# EAGLE library part IC_74141 (library untitled)
BCD to decimal decoder
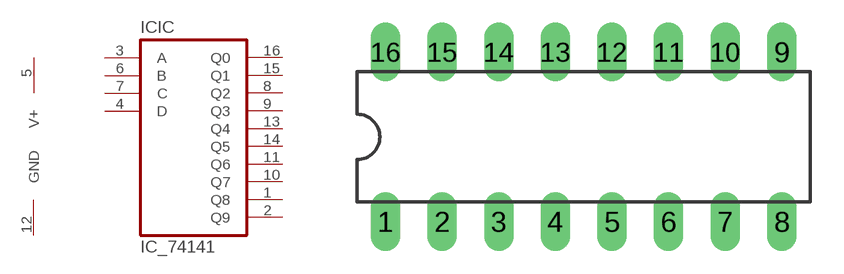
[diagram p33: symbol with the pads of DIL16; footprint DIL16]

Designator prefix IC; gates IC=74141 SUPPLY=SUPPLY

## IC_74141-DIP-16  [DIL16]
1  IC:Q8  out
2  IC:Q9  out
3  IC:A  in
4  IC:D  in
5  SUPPLY:V+  sup
6  IC:B  in
7  IC:C  in
8  IC:Q2  out
9  IC:Q3  out
10  IC:Q7  out
11  IC:Q6  out
12  SUPPLY:GND  sup
13  IC:Q4  out
14  IC:Q5  out
15  IC:Q1  out
16  IC:Q0  out

## Footprint DIL16 (pad centres in mm)
DIL-16
drill 0.813 long: 1 -8.89,-3.81; 2 -6.35,-3.81; 3 -3.81,-3.81; 4 -1.27,-3.81; 5 1.27,-3.81; 6 3.81,-3.81; 7 6.35,-3.81; 8 8.89,-3.81; 9 8.89,3.81; 10 6.35,3.81; 11 3.81,3.81; 12 1.27,3.81; 13 -1.27,3.81; 14 -3.81,3.81; 15 -6.35,3.81; 16 -8.89,3.81